# EAGLE library part DS2482-800 (library debauer_ics)
8 Channel I2C to 1-Wire Host Adapter/Line Driver This device is a onewire host and I2C interface in one chip. It provides the complete DC/AC requirements for onewire communication, including overdrive speed mode, but, unlike the DS2480B chip, no 12V EPROM programming. Notes: Unlike the DS2482-100, no external cicuit is required for overdrive speed and 5V EEPROM programming. The chip is really only a single onewire host with an additional 1-to-8 line selector. You may see it as a DS2482-100 / multi-DS2409 combo. The lower three I2C adress bits of the chip can be selected by external pins, so up to 8 chips may be connected to the same I2C bus. Author: Orginal device and description from Giovanni Varasano <giovanni.varasano@fastwebnet.it> Improved by Jan Kandziora <jjj@gmx.de>
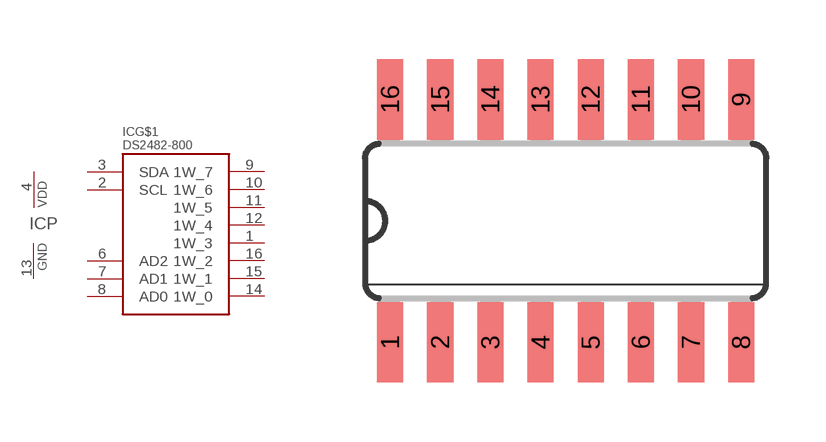
[diagram p42: symbol with the pads of SO16; footprint SO16]

Designator prefix IC; gates G$1=DS2482-800 P=VDD-GND

## DS2482-800  [SO16]
1  G$1:1W_3  oc
2  G$1:SCL  in
3  G$1:SDA
4  P:VDD  pwr
6  G$1:AD2  in
7  G$1:AD1  in
8  G$1:AD0  in
9  G$1:1W_7  oc
10  G$1:1W_6  oc
11  G$1:1W_5  oc
12  G$1:1W_4  oc
13  P:GND  pwr
14  G$1:1W_0  oc
15  G$1:1W_1  oc
16  G$1:1W_2  oc

## Footprint SO16 (pad centres in mm)
smd 0.66 x 2.032: 1 -4.445,-3.073; 2 -3.175,-3.073; 3 -1.905,-3.073; 4 -0.635,-3.073; 5 0.635,-3.073; 6 1.905,-3.073; 7 3.175,-3.073; 8 4.445,-3.073; 9 4.445,3.073; 10 3.175,3.073; 11 1.905,3.073; 12 0.635,3.073; 13 -0.635,3.073; 14 -1.905,3.073; 15 -3.175,3.073; 16 -4.445,3.073